# Altium schematic symbol library SCH - CONNECTORS - SAMTEC SMA-J-P-H-ST-EM1.SchLib: 1 symbol
Pins are listed as number, name and electrical type; pins without a type are passive.

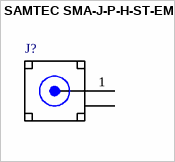
[diagram p0: symbol SAMTEC SMA-J-P-H-ST-EM1]

## SAMTEC SMA-J-P-H-ST-EM1
designator J?
pins: 1 SIGNAL, 2 GND (power)